# Altium integrated library Altium_Inductor.IntLib: 43 symbols (part 1 of 2)
Pins are listed as number, name and electrical type; pins without a type are passive.

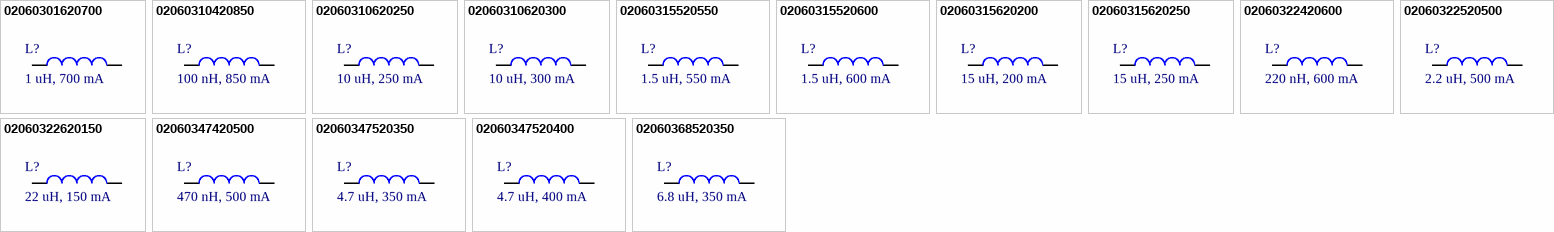
[diagram p0: symbols 02060301620700 to 02060368520350]

## 02060301620700
designator L?, comment 1 uH, 700 mA
Inductor SMD, size 0603, 1 uH, 700 mA; Manufacture Name: TDK; Manufacture SN: MLZ1608N1R0LTD25; Inductance: 1 uH; Tolerance: 20%; Maximum DC Current: 700 mA; Maximum DC Resistance: 110 mOhms; Saturation Current: 140 mA; ComponentLink2Description: Supplier 1 URL; ComponentLink2URL: https://www.mouser.vn/ProductDetail/TDK/MLZ1608N1R0LTD25?qs=u4%252BEJ9urDARZDe6QVFAkFg%3D%3D; Mounting Technology: SMT; Operating Temperature: -55 to +125degC; Packaging: Tape and Reel; Size: 0603; Supplier 1 Name: Mouser; Supplier 1 SN: 810-MLZ1608N1R0LTD25; Supplier 1 URL: https://www.mouser.vn/ProductDetail/TDK/MLZ1608N1R0LTD25?qs=u4%252BEJ9urDARZDe6QVFAkFg%3D%3D; Supplier 2 Name: Digi-Key; Supplier 2 SN: 445-17068-2-ND; Supplier 2 URL: https://www.digikey.com/en/products/detail/tdk-corporation/mlz1608n1r0ltd25/4743177; Supplier 3 Name: thegioiic; Supplier 3 SN: OEM; Supplier 3 URL: N/A; ComponentLink1Description: Datasheet; ComponentLink1URL: https://product.tdk.com/system/files/dam/doc/product/inductor/inductor/smd/catalog/inductor_automotive_decoupling_mlz1608_en.pdf?ref_disty=mouser; ComponentLink3Description: Supplier 2 URL; ComponentLink3URL: https://www.digikey.com/en/products/detail/tdk-corporation/mlz1608n1r0ltd25/4743177; ComponentLink4Description: Supplier 3 URL; Value: 1 uH, 700 mA
footprint 0603 (Chip Inductor, 2-Leads, Body 1.60x0.85mm, IPC Medium Density)
pins: 1, 2

## 02060310420850
designator L?, comment 100 nH, 850 mA
Inductor SMD, size 0603, 100 nH, 850 mA; Manufacture Name: TDK; Manufacture SN: MLZ1608DR10DTD25; Inductance: 100 nH; Tolerance: 20%; Maximum DC Current: 850 mA; Maximum DC Resistance: 140 mOhms; Saturation Current: 700 mA; ComponentLink2Description: Supplier 1 URL; ComponentLink2URL: https://www.mouser.vn/ProductDetail/TDK/MLZ1608DR10DTD25?qs=u4%252BEJ9urDARQOELDKhLR2A%3D%3D; Mounting Technology: SMT; Operating Temperature: -55 to +125degC; Packaging: Tape and Reel; Size: 0603; Supplier 1 Name: Mouser; Supplier 1 SN: 810-MLZ1608DR10DTD25; Supplier 1 URL: https://www.mouser.vn/ProductDetail/TDK/MLZ1608DR10DTD25?qs=u4%252BEJ9urDARQOELDKhLR2A%3D%3D; Supplier 2 Name: Digi-Key; Supplier 2 SN: 445-181772-2-ND; Supplier 2 URL: https://www.digikey.com/en/products/detail/tdk-corporation/MLZ1608DR10DTD25/4743170; Supplier 3 Name: thegioiic; Supplier 3 SN: OEM; Supplier 3 URL: N/A; ComponentLink1Description: Datasheet; ComponentLink1URL: https://product.tdk.com/system/files/dam/doc/product/inductor/inductor/smd/catalog/inductor_automotive_decoupling_mlz1608_en.pdf?ref_disty=mouser; ComponentLink3Description: Supplier 2 URL; ComponentLink3URL: https://www.digikey.com/en/products/detail/tdk-corporation/MLZ1608DR10DTD25/4743170; ComponentLink4Description: Supplier 3 URL; Value: 100 nH, 850 mA
footprint 0603 (Chip Inductor, 2-Leads, Body 1.60x0.85mm, IPC Medium Density)
pins: 1, 2

## 02060310620250
designator L?, comment 10 uH, 250 mA
Inductor SMD, size 0603, 10 uH, 250 mA; Manufacture Name: TDK; Manufacture SN: MLZ1608M100WTD25; Inductance: 10 uH; Tolerance: 20%; Maximum DC Current: 250 mA; Maximum DC Resistance: 1.05 Ohms; Saturation Current: 90 mA; ComponentLink2Description: Supplier 1 URL; ComponentLink2URL: https://www.mouser.vn/ProductDetail/TDK/MLZ1608M100WTD25?qs=u4%252BEJ9urDATpNhOvJ54DAQ%3D%3D; Mounting Technology: SMT; Operating Temperature: -55 to +125degC; Packaging: Tape and Reel; Size: 0603; Supplier 1 Name: Mouser; Supplier 1 SN: 810-MLZ1608M100WTD25; Supplier 1 URL: https://www.mouser.vn/ProductDetail/TDK/MLZ1608M100WTD25?qs=u4%252BEJ9urDATpNhOvJ54DAQ%3D%3D; Supplier 2 Name: Digi-Key; Supplier 2 SN: 445-175588-2-ND; Supplier 2 URL: https://www.digikey.com/en/products/detail/tdk-corporation/MLZ1608M100WTD25/4743176; Supplier 3 Name: thegioiic; Supplier 3 SN: OEM; Supplier 3 URL: N/A; ComponentLink1Description: Datasheet; ComponentLink1URL: https://product.tdk.com/system/files/dam/doc/product/inductor/inductor/smd/catalog/inductor_automotive_decoupling_mlz1608_en.pdf?ref_disty=mouser; ComponentLink3Description: Supplier 2 URL; ComponentLink3URL: https://www.digikey.com/en/products/detail/tdk-corporation/MLZ1608M100WTD25/4743176; ComponentLink4Description: Supplier 3 URL; Value: 10 uH, 250 mA
footprint 0603 (Chip Inductor, 2-Leads, Body 1.60x0.85mm, IPC Medium Density)
pins: 1, 2

## 02060310620300
designator L?, comment 10 uH, 300 mA
Inductor SMD, size 0603, 10 uH, 250 mA; Manufacture Name: TDK; Manufacture SN: MLZ1608N100LTD25; Inductance: 10 uH; Tolerance: 20%; Maximum DC Current: 300 mA; Maximum DC Resistance: 600 mOhms; Saturation Current: 60 mA; ComponentLink2Description: Supplier 1 URL; ComponentLink2URL: https://www.mouser.vn/ProductDetail/TDK/MLZ1608N100LTD25?qs=u4%252BEJ9urDAR9PN74yn68fw%3D%3D; Mounting Technology: SMT; Operating Temperature: -55 to +125degC; Packaging: Tape and Reel; Size: 0603; Supplier 1 Name: Mouser; Supplier 1 SN: 810-MLZ1608N100LTD25; Supplier 1 URL: https://www.mouser.vn/ProductDetail/TDK/MLZ1608N100LTD25?qs=u4%252BEJ9urDAR9PN74yn68fw%3D%3D; Supplier 2 Name: Digi-Key; Supplier 2 SN: 445-17067-2-ND; Supplier 2 URL: https://www.digikey.com/en/products/detail/tdk-corporation/MLZ1608N100LTD25/4743180; Supplier 3 Name: thegioiic; Supplier 3 SN: OEM; Supplier 3 URL: N/A; ComponentLink1Description: Datasheet; ComponentLink1URL: https://product.tdk.com/system/files/dam/doc/product/inductor/inductor/smd/catalog/inductor_automotive_decoupling_mlz1608_en.pdf?ref_disty=mouser; ComponentLink3Description: Supplier 2 URL; ComponentLink3URL: https://www.digikey.com/en/products/detail/tdk-corporation/MLZ1608N100LTD25/4743180; ComponentLink4Description: Supplier 3 URL; Value: 10 uH, 300 mA
footprint 0603 (Chip Inductor, 2-Leads, Body 1.60x0.85mm, IPC Medium Density)
pins: 1, 2

## 02060315520550
designator L?, comment 1.5 uH, 550 mA
Inductor SMD, size 0603, 1.5 uH, 550 mA; Manufacture Name: TDK; Manufacture SN: MLZ1608A1R5WTD25; Inductance: 1.5 uH; Tolerance: 20%; Maximum DC Current: 550 mA; Maximum DC Resistance: 210 mOhms; Saturation Current: 160 mA; ComponentLink2Description: Supplier 1 URL; ComponentLink2URL: https://www.mouser.vn/ProductDetail/TDK/MLZ1608A1R5WTD25?qs=%252B6g0mu59x7Lg7CF61%2F9A9Q%3D%3D; Mounting Technology: SMT; Operating Temperature: -55 to +125degC; Packaging: Tape and Reel; Size: 0603; Supplier 1 Name: Mouser; Supplier 1 SN: 810-MLZ1608A1R5WTD25; Supplier 1 URL: https://www.mouser.vn/ProductDetail/TDK/MLZ1608A1R5WTD25?qs=%252B6g0mu59x7Lg7CF61%2F9A9Q%3D%3D; Supplier 2 Name: Digi-Key; Supplier 2 SN: 445-MLZ1608A1R5WTD25TR-ND; Supplier 2 URL: https://www.digikey.com/en/products/detail/tdk-corporation/MLZ1608A1R5WTD25/10444786; Supplier 3 Name: thegioiic; Supplier 3 SN: OEM; Supplier 3 URL: N/A; ComponentLink1Description: Datasheet; ComponentLink1URL: https://product.tdk.com/system/files/dam/doc/product/inductor/inductor/smd/catalog/inductor_automotive_decoupling_mlz1608_en.pdf?ref_disty=mouser; ComponentLink3Description: Supplier 2 URL; ComponentLink3URL: https://www.digikey.com/en/products/detail/tdk-corporation/MLZ1608A1R5WTD25/10444786; ComponentLink4Description: Supplier 3 URL; Value: 1.5 uH, 550 mA
footprint 0603 (Chip Inductor, 2-Leads, Body 1.60x0.85mm, IPC Medium Density)
pins: 1, 2

## 02060315520600
designator L?, comment 1.5 uH, 600 mA
Inductor SMD, size 0603, 1.5 uH, 600 mA; Manufacture Name: TDK; Manufacture SN: MLZ1608N1R5LTD25; Inductance: 1.5 uH; Tolerance: 20%; Maximum DC Current: 600 mA; Maximum DC Resistance: 140 mOhms; Saturation Current: 130 mA; ComponentLink2Description: Supplier 1 URL; ComponentLink2URL: https://www.mouser.vn/ProductDetail/TDK/MLZ1608N1R5LTD25?qs=%252B6g0mu59x7I%2FeUgyQk2KQQ%3D%3D; Mounting Technology: SMT; Operating Temperature: -55 to +125degC; Packaging: Tape and Reel; Size: 0603; Supplier 1 Name: Mouser; Supplier 1 SN: 810-MLZ1608N1R5LTD25; Supplier 1 URL: https://www.mouser.vn/ProductDetail/TDK/MLZ1608N1R5LTD25?qs=%252B6g0mu59x7I%2FeUgyQk2KQQ%3D%3D; Supplier 2 Name: Digi-Key; Supplier 2 SN: 445-MLZ1608N1R5LTD25TR-ND; Supplier 2 URL: https://www.digikey.com/en/products/detail/tdk-corporation/MLZ1608N1R5LTD25/10444796; Supplier 3 Name: thegioiic; Supplier 3 SN: OEM; Supplier 3 URL: N/A; ComponentLink1Description: Datasheet; ComponentLink1URL: https://product.tdk.com/system/files/dam/doc/product/inductor/inductor/smd/catalog/inductor_automotive_decoupling_mlz1608_en.pdf?ref_disty=mouser; ComponentLink3Description: Supplier 2 URL; ComponentLink3URL: https://www.digikey.com/en/products/detail/tdk-corporation/MLZ1608N1R5LTD25/10444796; ComponentLink4Description: Supplier 3 URL; Value: 1.5 uH, 600 mA
footprint 0603 (Chip Inductor, 2-Leads, Body 1.60x0.85mm, IPC Medium Density)
pins: 1, 2

## 02060315620200
designator L?, comment 15 uH, 200 mA
Inductor SMD, size 0603, 15 uH, 200 mA; Manufacture Name: TDK; Manufacture SN: MLZ1608M150WTD25; Inductance: 15 uH; Tolerance: 20%; Maximum DC Current: 200 mA; Maximum DC Resistance: 1.5 Ohms; Saturation Current: 70 mA; ComponentLink2Description: Supplier 1 URL; ComponentLink2URL: https://www.mouser.vn/ProductDetail/TDK/MLZ1608M150WTD25?qs=%252B6g0mu59x7I%252BOawrISh7jg%3D%3D; Mounting Technology: SMT; Operating Temperature: -55 to +125degC; Packaging: Tape and Reel; Size: 0603; Supplier 1 Name: Mouser; Supplier 1 SN: 810-MLZ1608M150WTD25; Supplier 1 URL: https://www.mouser.vn/ProductDetail/TDK/MLZ1608M150WTD25?qs=%252B6g0mu59x7I%252BOawrISh7jg%3D%3D; Supplier 2 Name: Digi-Key; Supplier 2 SN: 445-MLZ1608M150WTD25TR-ND; Supplier 2 URL: https://www.digikey.com/en/products/detail/tdk-corporation/MLZ1608M150WTD25/10444797; Supplier 3 Name: thegioiic; Supplier 3 SN: OEM; Supplier 3 URL: N/A; ComponentLink1Description: Datasheet; ComponentLink1URL: https://product.tdk.com/system/files/dam/doc/product/inductor/inductor/smd/catalog/inductor_automotive_decoupling_mlz1608_en.pdf?ref_disty=mouser; ComponentLink3Description: Supplier 2 URL; ComponentLink3URL: https://www.digikey.com/en/products/detail/tdk-corporation/MLZ1608M150WTD25/10444797; ComponentLink4Description: Supplier 3 URL; Value: 15 uH, 200 mA
footprint 0603 (Chip Inductor, 2-Leads, Body 1.60x0.85mm, IPC Medium Density)
pins: 1, 2

## 02060315620250
designator L?, comment 15 uH, 250 mA
Inductor SMD, size 0603, 15 uH, 250 mA; Manufacture Name: TDK; Manufacture SN: MLZ1608N150LTD25; Inductance: 15 uH; Tolerance: 20%; Maximum DC Current: 250 mA; Maximum DC Resistance: 1.02 Ohms; Saturation Current: 55 mA; ComponentLink2Description: Supplier 1 URL; ComponentLink2URL: https://www.mouser.vn/ProductDetail/TDK/MLZ1608N150LTD25?qs=%252B6g0mu59x7JxcDPDnoSQZQ%3D%3D; Mounting Technology: SMT; Operating Temperature: -55 to +125degC; Packaging: Tape and Reel; Size: 0603; Supplier 1 Name: Mouser; Supplier 1 SN: 810-MLZ1608N150LTD25; Supplier 1 URL: https://www.mouser.vn/ProductDetail/TDK/MLZ1608N150LTD25?qs=%252B6g0mu59x7JxcDPDnoSQZQ%3D%3D; Supplier 2 Name: Digi-Key; Supplier 2 SN: 445-MLZ1608N150LTD25TR-ND; Supplier 2 URL: https://www.digikey.com/en/products/detail/tdk-corporation/MLZ1608N150LTD25/10444795; Supplier 3 Name: thegioiic; Supplier 3 SN: OEM; Supplier 3 URL: N/A; ComponentLink1Description: Datasheet; ComponentLink1URL: https://product.tdk.com/system/files/dam/doc/product/inductor/inductor/smd/catalog/inductor_automotive_decoupling_mlz1608_en.pdf?ref_disty=mouser; ComponentLink3Description: Supplier 2 URL; ComponentLink3URL: https://www.digikey.com/en/products/detail/tdk-corporation/MLZ1608N150LTD25/10444795; ComponentLink4Description: Supplier 3 URL; Value: 15 uH, 250 mA
footprint 0603 (Chip Inductor, 2-Leads, Body 1.60x0.85mm, IPC Medium Density)
pins: 1, 2

## 02060322420600
designator L?, comment 220 nH, 600 mA
Inductor SMD, size 0603, 220 nH, 600 mA; Manufacture Name: TDK; Manufacture SN: MLZ1608DR22DTD25; Inductance: 220 nH; Tolerance: 20%; Maximum DC Current: 600 mA; Maximum DC Resistance: 270 mOhms; Saturation Current: 550 mA; ComponentLink2Description: Supplier 1 URL; ComponentLink2URL: https://www.mouser.vn/ProductDetail/TDK/MLZ1608DR22DTD25?qs=u4%252BEJ9urDAQSgs4hTIdNHg%3D%3D; Mounting Technology: SMT; Operating Temperature: -55 to +125degC; Packaging: Tape and Reel; Size: 0603; Supplier 1 Name: Mouser; Supplier 1 SN: 810-MLZ1608DR22DTD25; Supplier 1 URL: https://www.mouser.vn/ProductDetail/TDK/MLZ1608DR22DTD25?qs=u4%252BEJ9urDAQSgs4hTIdNHg%3D%3D; Supplier 2 Name: Digi-Key; Supplier 2 SN: 445-181773-2-ND; Supplier 2 URL: https://www.digikey.com/en/products/detail/tdk-corporation/MLZ1608DR22DTD25/4743171; Supplier 3 Name: thegioiic; Supplier 3 SN: OEM; Supplier 3 URL: N/A; ComponentLink1Description: Datasheet; ComponentLink1URL: https://product.tdk.com/system/files/dam/doc/product/inductor/inductor/smd/catalog/inductor_automotive_decoupling_mlz1608_en.pdf?ref_disty=mouser; ComponentLink3Description: Supplier 2 URL; ComponentLink3URL: https://www.digikey.com/en/products/detail/tdk-corporation/MLZ1608DR22DTD25/4743171; ComponentLink4Description: Supplier 3 URL; Value: 220 nH, 600 mA
footprint 0603 (Chip Inductor, 2-Leads, Body 1.60x0.85mm, IPC Medium Density)
pins: 1, 2

## 02060322520500
designator L?, comment 2.2 uH, 500 mA
Inductor SMD, size 0603, 2.2 uH, 500 mA; Manufacture Name: TDK; Manufacture SN: MLZ1608A2R2WTD25; Inductance: 2.2 uH; Tolerance: 20%; Maximum DC Current: 500 mA; Maximum DC Resistance: 250 mOhms; Saturation Current: 130 mA; ComponentLink2Description: Supplier 1 URL; ComponentLink2URL: https://www.mouser.vn/ProductDetail/TDK/MLZ1608A2R2WTD25?qs=u4%252BEJ9urDATk7ZqxOPwIUA%3D%3D; Mounting Technology: SMT; Operating Temperature: -55 to +125degC; Packaging: Tape and Reel; Size: 0603; Supplier 1 Name: Mouser; Supplier 1 SN: 810-MLZ1608A2R2WTD25; Supplier 1 URL: https://www.mouser.vn/ProductDetail/TDK/MLZ1608A2R2WTD25?qs=u4%252BEJ9urDATk7ZqxOPwIUA%3D%3D; Supplier 2 Name: Digi-Key; Supplier 2 SN: 445-MLZ1608A2R2WTD25TR-ND; Supplier 2 URL: https://www.digikey.com/en/products/detail/tdk-corporation/MLZ1608A2R2WTD25/4743174; Supplier 3 Name: thegioiic; Supplier 3 SN: OEM; Supplier 3 URL: N/A; ComponentLink1Description: Datasheet; ComponentLink1URL: https://product.tdk.com/system/files/dam/doc/product/inductor/inductor/smd/catalog/inductor_automotive_decoupling_mlz1608_en.pdf?ref_disty=mouser; ComponentLink3Description: Supplier 2 URL; ComponentLink3URL: https://www.digikey.com/en/products/detail/tdk-corporation/MLZ1608A2R2WTD25/4743174; ComponentLink4Description: Supplier 3 URL; Value: 2.2 uH, 500 mA
footprint 0603 (Chip Inductor, 2-Leads, Body 1.60x0.85mm, IPC Medium Density)
pins: 1, 2

## 02060322620150
designator L?, comment 22 uH, 150 mA
Inductor SMD, size 0603, 2.2 uH, 500 mA; Manufacture Name: TDK; Manufacture SN: MLZ1608M220WTD25; Inductance: 22 uH; Tolerance: 20%; Maximum DC Current: 150 mA; Maximum DC Resistance: 2.4 Ohms; Saturation Current: 55 mA; ComponentLink2Description: Supplier 1 URL; ComponentLink2URL: https://www.mouser.vn/ProductDetail/TDK/MLZ1608M220WTD25?qs=YdQ7Kj7W0bxoaxZZHsF4zA%3D%3D; Mounting Technology: SMT; Operating Temperature: -55 to +125degC; Packaging: Tape and Reel; Size: 0603; Supplier 1 Name: Mouser; Supplier 1 SN: 810-MLZ1608M220WTD25; Supplier 1 URL: https://www.mouser.vn/ProductDetail/TDK/MLZ1608M220WTD25?qs=YdQ7Kj7W0bxoaxZZHsF4zA%3D%3D; Supplier 2 Name: Digi-Key; Supplier 2 SN: 445-175589-2-ND; Supplier 2 URL: https://www.digikey.com/en/products/detail/tdk-corporation/MLZ1608M220WTD25/5286368; Supplier 3 Name: thegioiic; Supplier 3 SN: OEM; Supplier 3 URL: N/A; ComponentLink1Description: Datasheet; ComponentLink1URL: https://product.tdk.com/system/files/dam/doc/product/inductor/inductor/smd/catalog/inductor_automotive_decoupling_mlz1608_en.pdf?ref_disty=mouser; ComponentLink3Description: Supplier 2 URL; ComponentLink3URL: https://www.digikey.com/en/products/detail/tdk-corporation/MLZ1608M220WTD25/5286368; ComponentLink4Description: Supplier 3 URL; Value: 22 uH, 150 mA
footprint 0603 (Chip Inductor, 2-Leads, Body 1.60x0.85mm, IPC Medium Density)
pins: 1, 2

## 02060347420500
designator L?, comment 470 nH, 500 mA
Inductor SMD, size 0603, 470 nH, 500 mA; Manufacture Name: TDK; Manufacture SN: MLZ1608DR47DTD25; Inductance: 470 nH; Tolerance: 20%; Maximum DC Current: 500 mA; Maximum DC Resistance: 420 mOhms; Saturation Current: 400 mA; ComponentLink2Description: Supplier 1 URL; ComponentLink2URL: https://www.mouser.vn/ProductDetail/TDK/MLZ1608DR47DTD25?qs=u4%252BEJ9urDASb15lCTTiHEg%3D%3D; Mounting Technology: SMT; Operating Temperature: -55 to +125degC; Packaging: Tape and Reel; Size: 0603; Supplier 1 Name: Mouser; Supplier 1 SN: 810-MLZ1608DR47DTD25; Supplier 1 URL: https://www.mouser.vn/ProductDetail/TDK/MLZ1608DR47DTD25?qs=u4%252BEJ9urDASb15lCTTiHEg%3D%3D; Supplier 2 Name: Digi-Key; Supplier 2 SN: 445-175372-2-ND; Supplier 2 URL: https://www.digikey.com/en/products/detail/tdk-corporation/MLZ1608DR47DTD25/4743172; Supplier 3 Name: thegioiic; Supplier 3 SN: OEM; Supplier 3 URL: N/A; ComponentLink1Description: Datasheet; ComponentLink1URL: https://product.tdk.com/system/files/dam/doc/product/inductor/inductor/smd/catalog/inductor_automotive_decoupling_mlz1608_en.pdf?ref_disty=mouser; ComponentLink3Description: Supplier 2 URL; ComponentLink3URL: https://www.digikey.com/en/products/detail/tdk-corporation/MLZ1608DR47DTD25/4743172; ComponentLink4Description: Supplier 3 URL; Value: 470 nH, 500 mA
footprint 0603 (Chip Inductor, 2-Leads, Body 1.60x0.85mm, IPC Medium Density)
pins: 1, 2

## 02060347520350
designator L?, comment 4.7 uH, 350 mA
Inductor SMD, size 0603, 4.7 uH, 350 mA; Manufacture Name: TDK; Manufacture SN: MLZ1608M4R7WTD25; Inductance: 4.7 uH; Tolerance: 20%; Maximum DC Current: 350 mA; Maximum DC Resistance: 500 mOhms; Saturation Current: 120 mA; ComponentLink2Description: Supplier 1 URL; ComponentLink2URL: https://www.mouser.vn/ProductDetail/TDK/MLZ1608M4R7WTD25?qs=u4%252BEJ9urDARoIG2pH84vrg%3D%3D; Mounting Technology: SMT; Operating Temperature: -55 to +125degC; Packaging: Tape and Reel; Size: 0603; Supplier 1 Name: Mouser; Supplier 1 SN: 810-MLZ1608M4R7WTD25; Supplier 1 URL: https://www.mouser.vn/ProductDetail/TDK/MLZ1608M4R7WTD25?qs=u4%252BEJ9urDARoIG2pH84vrg%3D%3D; Supplier 2 Name: Digi-Key; Supplier 2 SN: 445-181774-2-ND; Supplier 2 URL: https://www.digikey.com/en/products/detail/tdk-corporation/MLZ1608M4R7WTD25/4743175; Supplier 3 Name: thegioiic; Supplier 3 SN: OEM; Supplier 3 URL: N/A; ComponentLink1Description: Datasheet; ComponentLink1URL: https://product.tdk.com/system/files/dam/doc/product/inductor/inductor/smd/catalog/inductor_automotive_decoupling_mlz1608_en.pdf?ref_disty=mouser; ComponentLink3Description: Supplier 2 URL; ComponentLink3URL: https://www.digikey.com/en/products/detail/tdk-corporation/MLZ1608M4R7WTD25/4743175; ComponentLink4Description: Supplier 3 URL; Value: 4.7 uH, 350 mA
footprint 0603 (Chip Inductor, 2-Leads, Body 1.60x0.85mm, IPC Medium Density)
pins: 1, 2

## 02060347520400
designator L?, comment 4.7 uH, 400 mA
Inductor SMD, size 0603, 4.7 uH, 400 mA; Manufacture Name: TDK; Manufacture SN: MLZ1608N4R7LTD25; Inductance: 4.7 uH; Tolerance: 20%; Maximum DC Current: 400 mA; Maximum DC Resistance: 320 mOhms; Saturation Current: 80 mA; ComponentLink2Description: Supplier 1 URL; ComponentLink2URL: https://www.mouser.vn/ProductDetail/TDK/MLZ1608N4R7LTD25?qs=u4%252BEJ9urDATh1I%2FCoJo5pA%3D%3D; Mounting Technology: SMT; Operating Temperature: -55 to +125degC; Packaging: Tape and Reel; Size: 0603; Supplier 1 Name: Mouser; Supplier 1 SN: 810-MLZ1608N4R7LTD25; Supplier 1 URL: https://www.mouser.vn/ProductDetail/TDK/MLZ1608N4R7LTD25?qs=u4%252BEJ9urDATh1I%2FCoJo5pA%3D%3D; Supplier 2 Name: Digi-Key; Supplier 2 SN: 445-17071-2-ND; Supplier 2 URL: https://www.digikey.com/en/products/detail/tdk-corporation/MLZ1608N4R7LTD25/4743179; Supplier 3 Name: thegioiic; Supplier 3 SN: OEM; Supplier 3 URL: N/A; ComponentLink1Description: Datasheet; ComponentLink1URL: https://product.tdk.com/system/files/dam/doc/product/inductor/inductor/smd/catalog/inductor_automotive_decoupling_mlz1608_en.pdf?ref_disty=mouser; ComponentLink3Description: Supplier 2 URL; ComponentLink3URL: https://www.digikey.com/en/products/detail/tdk-corporation/MLZ1608N4R7LTD25/4743179; ComponentLink4Description: Supplier 3 URL; Value: 4.7 uH, 400 mA
footprint 0603 (Chip Inductor, 2-Leads, Body 1.60x0.85mm, IPC Medium Density)
pins: 1, 2

## 02060368520350
designator L?, comment 6.8 uH, 350 mA
Inductor SMD, size 0603, 6.8 uH, 350 mA; Manufacture Name: TDK; Manufacture SN: MLZ1608N6R8LTD25; Inductance: 6.8 uH; Tolerance: 20%; Maximum DC Current: 350 mA; Maximum DC Resistance: 500 mOhms; Saturation Current: 80 mA; ComponentLink2Description: Supplier 1 URL; ComponentLink2URL: https://www.mouser.vn/ProductDetail/TDK/MLZ1608N6R8LTD25?qs=%252B6g0mu59x7J9YLPGsJOURg%3D%3D; Mounting Technology: SMT; Operating Temperature: -55 to +125degC; Packaging: Tape and Reel; Size: 0603; Supplier 1 Name: Mouser; Supplier 1 SN: 810-MLZ1608N6R8LTD25; Supplier 1 URL: https://www.mouser.vn/ProductDetail/TDK/MLZ1608N6R8LTD25?qs=%252B6g0mu59x7J9YLPGsJOURg%3D%3D; Supplier 2 Name: Digi-Key; Supplier 2 SN: 445-MLZ1608N6R8LTD25TR-ND; Supplier 2 URL: https://www.digikey.com/en/products/detail/tdk-corporation/MLZ1608N6R8LTD25/10444790; Supplier 3 Name: thegioiic; Supplier 3 SN: OEM; Supplier 3 URL: N/A; ComponentLink1Description: Datasheet; ComponentLink1URL: https://product.tdk.com/system/files/dam/doc/product/inductor/inductor/smd/catalog/inductor_automotive_decoupling_mlz1608_en.pdf?ref_disty=mouser; ComponentLink3Description: Supplier 2 URL; ComponentLink3URL: https://www.digikey.com/en/products/detail/tdk-corporation/MLZ1608N6R8LTD25/10444790; ComponentLink4Description: Supplier 3 URL; Value: 6.8 uH, 350 mA
footprint 0603 (Chip Inductor, 2-Leads, Body 1.60x0.85mm, IPC Medium Density)
pins: 1, 2


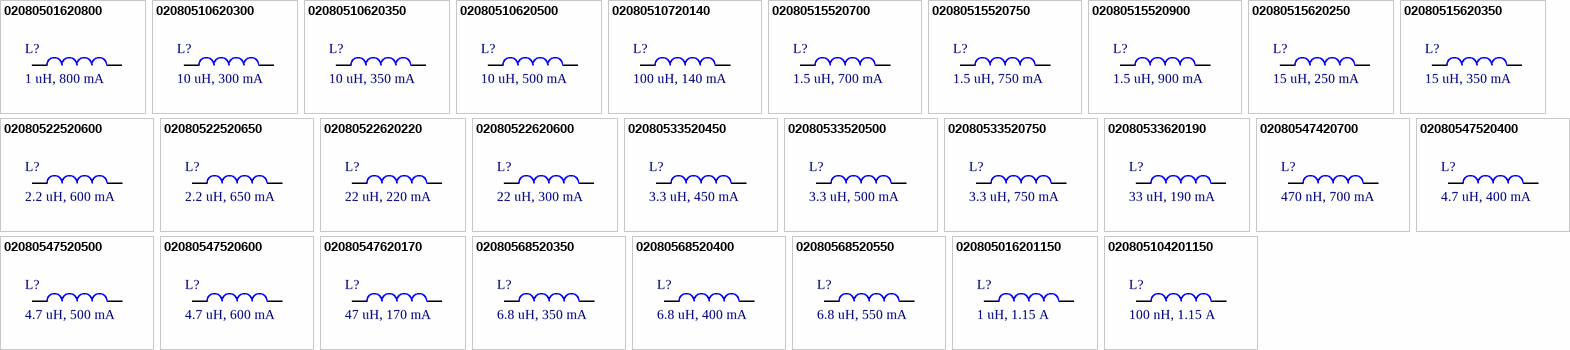
[diagram p1: symbols 02080501620800 to 020805104201150]

## 02080501620800
designator L?, comment 1 uH, 800 mA
Inductor SMD, size 0805, 1 uH, 800 mA; Manufacture Name: TDK; Manufacture SN: MLZ2012M1R0HTD25; Inductance: 1 uH; Tolerance: 20%; Maximum DC Current: 800 mA; Maximum DC Resistance: 100 mOhms; Saturation Current: 700 mA; ComponentLink2Description: Supplier 1 URL; ComponentLink2URL: https://www.mouser.vn/ProductDetail/TDK/MLZ2012M1R0HTD25?qs=u4%252BEJ9urDAQlAU4Z%2FIlhRQ%3D%3D; Mounting Technology: SMT; Operating Temperature: -55 to +125degC; Packaging: Tape and Reel; Size: 0805; Supplier 1 Name: Mouser; Supplier 1 SN: 810-MLZ2012M1R0HTD25; Supplier 1 URL: https://www.mouser.vn/ProductDetail/TDK/MLZ2012M1R0HTD25?qs=u4%252BEJ9urDAQlAU4Z%2FIlhRQ%3D%3D; Supplier 2 Name: Digi-Key; Supplier 2 SN: 445-17075-2-ND; Supplier 2 URL: https://www.digikey.com/en/products/detail/tdk-corporation/MLZ2012M1R0HTD25/4743204; Supplier 3 Name: thegioiic; Supplier 3 SN: OEM; Supplier 3 URL: N/A; ComponentLink1Description: Datasheet; ComponentLink1URL: https://product.tdk.com/system/files/dam/doc/product/inductor/inductor/smd/catalog/inductor_automotive_decoupling_mlz2012_en.pdf?ref_disty=mouser; ComponentLink3Description: Supplier 2 URL; ComponentLink3URL: https://www.digikey.com/en/products/detail/tdk-corporation/MLZ2012M1R0HTD25/4743204; ComponentLink4Description: Supplier 3 URL; Value: 1 uH, 800 mA
footprint 0805 (Chip Inductor, 2-Leads, Body 2.05x1.30mm, IPC Medium Density)
pins: 1, 2

## 02080510620300
designator L?, comment 10 uH, 300 mA
Inductor SMD, size 0805, 10 uH, 300 mA; Manufacture Name: TDK; Manufacture SN: MLZ2012M100HTD25; Inductance: 10 uH; Tolerance: 20%; Maximum DC Current: 300 mA; Maximum DC Resistance: 680 mOhms; Saturation Current: 200 mA; ComponentLink2Description: Supplier 1 URL; ComponentLink2URL: https://www.mouser.vn/ProductDetail/TDK/MLZ2012M100HTD25?qs=u4%252BEJ9urDAQYkd2XyBHI6Q%3D%3D; Mounting Technology: SMT; Operating Temperature: -55 to +125degC; Packaging: Tape and Reel; Size: 0805; Supplier 1 Name: Mouser; Supplier 1 SN: 810-MLZ2012M100HTD25; Supplier 1 URL: https://www.mouser.vn/ProductDetail/TDK/MLZ2012M100HTD25?qs=u4%252BEJ9urDAQYkd2XyBHI6Q%3D%3D; Supplier 2 Name: Digi-Key; Supplier 2 SN: 445-17072-2-ND; Supplier 2 URL: https://www.digikey.com/en/products/detail/tdk-corporation/MLZ2012M100HTD25/4743207; Supplier 3 Name: thegioiic; Supplier 3 SN: OEM; Supplier 3 URL: N/A; ComponentLink1Description: Datasheet; ComponentLink1URL: https://product.tdk.com/system/files/dam/doc/product/inductor/inductor/smd/catalog/inductor_automotive_decoupling_mlz2012_en.pdf?ref_disty=mouser; ComponentLink3Description: Supplier 2 URL; ComponentLink3URL: https://www.digikey.com/en/products/detail/tdk-corporation/MLZ2012M100HTD25/4743207; ComponentLink4Description: Supplier 3 URL; Value: 10 uH, 300 mA
footprint 0805 (Chip Inductor, 2-Leads, Body 2.05x1.30mm, IPC Medium Density)
pins: 1, 2

## 02080510620350
designator L?, comment 10 uH, 350 mA
Inductor SMD, size 0805, 10 uH, 350 mA; Manufacture Name: TDK; Manufacture SN: MLZ2012M100WTD25; Inductance: 10 uH; Tolerance: 20%; Maximum DC Current: 350 mA; Maximum DC Resistance: 470 mOhms; Saturation Current: 150 mA; ComponentLink2Description: Supplier 1 URL; ComponentLink2URL: https://www.mouser.vn/ProductDetail/TDK/MLZ2012M100WTD25?qs=u4%252BEJ9urDAR9TAtQyg%252Bgig%3D%3D; Mounting Technology: SMT; Operating Temperature: -55 to +125degC; Packaging: Tape and Reel; Size: 0805; Supplier 1 Name: Mouser; Supplier 1 SN: 810-MLZ2012M100WTD25; Supplier 1 URL: https://www.mouser.vn/ProductDetail/TDK/MLZ2012M100WTD25?qs=u4%252BEJ9urDAR9TAtQyg%252Bgig%3D%3D; Supplier 2 Name: Digi-Key; Supplier 2 SN: 445-17073-2-ND; Supplier 2 URL: https://www.digikey.com/en/products/detail/tdk-corporation/MLZ2012M100WTD25/4743190; Supplier 3 Name: thegioiic; Supplier 3 SN: OEM; Supplier 3 URL: N/A; ComponentLink1Description: Datasheet; ComponentLink1URL: https://product.tdk.com/system/files/dam/doc/product/inductor/inductor/smd/catalog/inductor_automotive_decoupling_mlz2012_en.pdf?ref_disty=mouser; ComponentLink3Description: Supplier 2 URL; ComponentLink3URL: https://www.digikey.com/en/products/detail/tdk-corporation/MLZ2012M100WTD25/4743190; ComponentLink4Description: Supplier 3 URL; Value: 10 uH, 350 mA
footprint 0805 (Chip Inductor, 2-Leads, Body 2.05x1.30mm, IPC Medium Density)
pins: 1, 2

## 02080510620500
designator L?, comment 10 uH, 500 mA
Inductor SMD, size 0805, 10 uH, 500 mA; Manufacture Name: TDK; Manufacture SN: MLZ2012N100LTD25; Inductance: 10 uH; Tolerance: 20%; Maximum DC Current: 500 mA; Maximum DC Resistance: 300 mOhms; Saturation Current: 110 mA; ComponentLink2Description: Supplier 1 URL; ComponentLink2URL: https://www.mouser.vn/ProductDetail/TDK/MLZ2012N100LTD25?qs=u4%252BEJ9urDARneg1gtcr%252BDw%3D%3D; Mounting Technology: SMT; Operating Temperature: -55 to +125degC; Packaging: Tape and Reel; Size: 0805; Supplier 1 Name: Mouser; Supplier 1 SN: 810-MLZ2012N100LTD25; Supplier 1 URL: https://www.mouser.vn/ProductDetail/TDK/MLZ2012N100LTD25?qs=u4%252BEJ9urDARneg1gtcr%252BDw%3D%3D; Supplier 2 Name: Digi-Key; Supplier 2 SN: 445-16376-2-ND; Supplier 2 URL: https://www.digikey.com/en/products/detail/tdk-corporation/MLZ2012N100LTD25/4743201; Supplier 3 Name: thegioiic; Supplier 3 SN: OEM; Supplier 3 URL: N/A; ComponentLink1Description: Datasheet; ComponentLink1URL: https://product.tdk.com/system/files/dam/doc/product/inductor/inductor/smd/catalog/inductor_automotive_decoupling_mlz2012_en.pdf?ref_disty=mouser; ComponentLink3Description: Supplier 2 URL; ComponentLink3URL: https://www.digikey.com/en/products/detail/tdk-corporation/MLZ2012N100LTD25/4743201; ComponentLink4Description: Supplier 3 URL; Value: 10 uH, 500 mA
footprint 0805 (Chip Inductor, 2-Leads, Body 2.05x1.30mm, IPC Medium Density)
pins: 1, 2

## 02080510720140
designator L?, comment 100 uH, 140 mA
Inductor SMD, size 0805, 100 uH, 140 mA; Manufacture Name: TDK; Manufacture SN: MLZ2012N101LTD25; Inductance: 100 uH; Tolerance: 20%; Maximum DC Current: 140 mA; Maximum DC Resistance: 3.5 Ohms; Saturation Current: 30 mA; ComponentLink2Description: Supplier 1 URL; ComponentLink2URL: https://www.mouser.vn/ProductDetail/TDK/MLZ2012N101LTD25?qs=YdQ7Kj7W0bw9XroInDCNIA%3D%3D; Mounting Technology: SMT; Operating Temperature: -55 to +125degC; Packaging: Tape and Reel; Size: 0805; Supplier 1 Name: Mouser; Supplier 1 SN: 810-MLZ2012N101LTD25; Supplier 1 URL: https://www.mouser.vn/ProductDetail/TDK/MLZ2012N101LTD25?qs=YdQ7Kj7W0bw9XroInDCNIA%3D%3D; Supplier 2 Name: Digi-Key; Supplier 2 SN: 445-181376-2-ND; Supplier 2 URL: https://www.digikey.com/en/products/detail/tdk-corporation/MLZ2012N101LTD25/5286375; Supplier 3 Name: thegioiic; Supplier 3 SN: OEM; Supplier 3 URL: N/A; ComponentLink1Description: Datasheet; ComponentLink1URL: https://product.tdk.com/system/files/dam/doc/product/inductor/inductor/smd/catalog/inductor_automotive_decoupling_mlz2012_en.pdf?ref_disty=mouser; ComponentLink3Description: Supplier 2 URL; ComponentLink3URL: https://www.digikey.com/en/products/detail/tdk-corporation/MLZ2012N101LTD25/5286375; ComponentLink4Description: Supplier 3 URL; Value: 100 uH, 140 mA
footprint 0805 (Chip Inductor, 2-Leads, Body 2.05x1.30mm, IPC Medium Density)
pins: 1, 2

## 02080515520700
designator L?, comment 1.5 uH, 700 mA
Inductor SMD, size 0805, 1.5 uH, 700 mA; Manufacture Name: TDK; Manufacture SN: MLZ2012M1R5HTD25; Inductance: 1.5 uH; Tolerance: 20%; Maximum DC Current: 700 mA; Maximum DC Resistance: 140 mOhms; Saturation Current: 550 mA; ComponentLink2Description: Supplier 1 URL; ComponentLink2URL: https://www.mouser.vn/ProductDetail/TDK/MLZ2012M1R5HTD25?qs=YdQ7Kj7W0bxvRKaUr8n3wg%3D%3D; Mounting Technology: SMT; Operating Temperature: -55 to +125degC; Packaging: Tape and Reel; Size: 0805; Supplier 1 Name: Mouser; Supplier 1 SN: 810-MLZ2012M1R5HTD25; Supplier 1 URL: https://www.mouser.vn/ProductDetail/TDK/MLZ2012M1R5HTD25?qs=YdQ7Kj7W0bxvRKaUr8n3wg%3D%3D; Supplier 2 Name: Digi-Key; Supplier 2 SN: 445-181776-2-ND; Supplier 2 URL: https://www.digikey.com/en/products/detail/tdk-corporation/MLZ2012M1R5HTD25/5286370; Supplier 3 Name: thegioiic; Supplier 3 SN: OEM; Supplier 3 URL: N/A; ComponentLink1Description: Datasheet; ComponentLink1URL: https://product.tdk.com/system/files/dam/doc/product/inductor/inductor/smd/catalog/inductor_automotive_decoupling_mlz2012_en.pdf?ref_disty=mouser; ComponentLink3Description: Supplier 2 URL; ComponentLink3URL: https://www.digikey.com/en/products/detail/tdk-corporation/MLZ2012M1R5HTD25/5286370; ComponentLink4Description: Supplier 3 URL; Value: 1.5 uH, 700 mA
footprint 0805 (Chip Inductor, 2-Leads, Body 2.05x1.30mm, IPC Medium Density)
pins: 1, 2

## 02080515520750
designator L?, comment 1.5 uH, 750 mA
Inductor SMD, size 0805, 1.5 uH, 750 mA; Manufacture Name: TDK; Manufacture SN: MLZ2012A1R5WTD25; Inductance: 1.5 uH; Tolerance: 20%; Maximum DC Current: 750 mA; Maximum DC Resistance: 130 mOhms; Saturation Current: 250 mA; ComponentLink2Description: Supplier 1 URL; ComponentLink2URL: https://www.mouser.vn/ProductDetail/TDK/MLZ2012A1R5WTD25?qs=u4%252BEJ9urDARizsVIGgQ1NQ%3D%3D; Mounting Technology: SMT; Operating Temperature: -55 to +125degC; Packaging: Tape and Reel; Size: 0805; Supplier 1 Name: Mouser; Supplier 1 SN: 810-MLZ2012A1R5WTD25; Supplier 1 URL: https://www.mouser.vn/ProductDetail/TDK/MLZ2012A1R5WTD25?qs=u4%252BEJ9urDARizsVIGgQ1NQ%3D%3D; Supplier 2 Name: Digi-Key; Supplier 2 SN: 445-16373-2-ND; Supplier 2 URL: https://www.digikey.com/en/products/detail/tdk-corporation/MLZ2012A1R5WTD25/4743185; Supplier 3 Name: thegioiic; Supplier 3 SN: OEM; Supplier 3 URL: N/A; ComponentLink1Description: Datasheet; ComponentLink1URL: https://product.tdk.com/system/files/dam/doc/product/inductor/inductor/smd/catalog/inductor_automotive_decoupling_mlz2012_en.pdf?ref_disty=mouser; ComponentLink3Description: Supplier 2 URL; ComponentLink3URL: https://www.digikey.com/en/products/detail/tdk-corporation/MLZ2012A1R5WTD25/4743185; ComponentLink4Description: Supplier 3 URL; Value: 1.5 uH, 750 mA
footprint 0805 (Chip Inductor, 2-Leads, Body 2.05x1.30mm, IPC Medium Density)
pins: 1, 2

## 02080515520900
designator L?, comment 1.5 uH, 900 mA
Inductor SMD, size 0805, 1.5 uH, 900 mA; Manufacture Name: TDK; Manufacture SN: MLZ2012N1R5LTD25; Inductance: 1.5 uH; Tolerance: 20%; Maximum DC Current: 900 mA; Maximum DC Resistance: 100 mOhms; Saturation Current: 190 mA; ComponentLink2Description: Supplier 1 URL; ComponentLink2URL: https://www.mouser.vn/ProductDetail/TDK/MLZ2012N1R5LTD25?qs=u4%252BEJ9urDATCFulmG8b9Pw%3D%3D; Mounting Technology: SMT; Operating Temperature: -55 to +125degC; Packaging: Tape and Reel; Size: 0805; Supplier 1 Name: Mouser; Supplier 1 SN: 810-MLZ2012N1R5LTD25; Supplier 1 URL: https://www.mouser.vn/ProductDetail/TDK/MLZ2012N1R5LTD25?qs=u4%252BEJ9urDATCFulmG8b9Pw%3D%3D; Supplier 2 Name: Digi-Key; Supplier 2 SN: 445-16379-2-ND; Supplier 2 URL: https://www.digikey.com/en/products/detail/tdk-corporation/MLZ2012N1R5LTD25/4743196; Supplier 3 Name: thegioiic; Supplier 3 SN: OEM; Supplier 3 URL: N/A; ComponentLink1Description: Datasheet; ComponentLink1URL: https://product.tdk.com/system/files/dam/doc/product/inductor/inductor/smd/catalog/inductor_automotive_decoupling_mlz2012_en.pdf?ref_disty=mouser; ComponentLink3Description: Supplier 2 URL; ComponentLink3URL: https://www.digikey.com/en/products/detail/tdk-corporation/MLZ2012N1R5LTD25/4743196; ComponentLink4Description: Supplier 3 URL; Value: 1.5 uH, 900 mA
footprint 0805 (Chip Inductor, 2-Leads, Body 2.05x1.30mm, IPC Medium Density)
pins: 1, 2

## 02080515620250
designator L?, comment 15 uH, 250 mA
Inductor SMD, size 0805, 15 uH, 250 mA; Manufacture Name: TDK; Manufacture SN: MLZ2012M150WTD25; Inductance: 15 uH; Tolerance: 20%; Maximum DC Current: 250 mA; Maximum DC Resistance: 950 mOhms; Saturation Current: 120 mA; ComponentLink2Description: Supplier 1 URL; ComponentLink2URL: https://www.mouser.vn/ProductDetail/TDK/MLZ2012M150WTD25?qs=u4%252BEJ9urDASd%2F4tcpzyeCQ%3D%3D; Mounting Technology: SMT; Operating Temperature: -55 to +125degC; Packaging: Tape and Reel; Size: 0805; Supplier 1 Name: Mouser; Supplier 1 SN: 810-MLZ2012M150WTD25; Supplier 1 URL: https://www.mouser.vn/ProductDetail/TDK/MLZ2012M150WTD25?qs=u4%252BEJ9urDASd%2F4tcpzyeCQ%3D%3D; Supplier 2 Name: Digi-Key; Supplier 2 SN: 445-17074-2-ND; Supplier 2 URL: https://www.digikey.com/en/products/detail/tdk-corporation/MLZ2012M150WTD25/4743191; Supplier 3 Name: thegioiic; Supplier 3 SN: OEM; Supplier 3 URL: N/A; ComponentLink1Description: Datasheet; ComponentLink1URL: https://product.tdk.com/system/files/dam/doc/product/inductor/inductor/smd/catalog/inductor_automotive_decoupling_mlz2012_en.pdf?ref_disty=mouser; ComponentLink3Description: Supplier 2 URL; ComponentLink3URL: https://www.digikey.com/en/products/detail/tdk-corporation/MLZ2012M150WTD25/4743191; ComponentLink4Description: Supplier 3 URL; Value: 15 uH, 250 mA
footprint 0805 (Chip Inductor, 2-Leads, Body 2.05x1.30mm, IPC Medium Density)
pins: 1, 2

## 02080515620350
designator L?, comment 15 uH, 350 mA
Inductor SMD, size 0805, 15 uH, 350 mA; Manufacture Name: TDK; Manufacture SN: MLZ2012N150LTD25; Inductance: 15 uH; Tolerance: 20%; Maximum DC Current: 350 mA; Maximum DC Resistance: 470 mOhms; Saturation Current: 90 mA; ComponentLink2Description: Supplier 1 URL; ComponentLink2URL: https://www.mouser.vn/ProductDetail/TDK/MLZ2012N150LTD25?qs=u4%252BEJ9urDAQgWowZxSy8Gw%3D%3D; Mounting Technology: SMT; Operating Temperature: -55 to +125degC; Packaging: Tape and Reel; Size: 0805; Supplier 1 Name: Mouser; Supplier 1 SN: 810-MLZ2012N150LTD25; Supplier 1 URL: https://www.mouser.vn/ProductDetail/TDK/MLZ2012N150LTD25?qs=u4%252BEJ9urDAQgWowZxSy8Gw%3D%3D; Supplier 2 Name: Digi-Key; Supplier 2 SN: 445-16377-2-ND; Supplier 2 URL: https://www.digikey.com/en/products/detail/tdk-corporation/MLZ2012N150LTD25/4743202; Supplier 3 Name: thegioiic; Supplier 3 SN: OEM; Supplier 3 URL: N/A; ComponentLink1Description: Datasheet; ComponentLink1URL: https://product.tdk.com/system/files/dam/doc/product/inductor/inductor/smd/catalog/inductor_automotive_decoupling_mlz2012_en.pdf?ref_disty=mouser; ComponentLink3Description: Supplier 2 URL; ComponentLink3URL: https://www.digikey.com/en/products/detail/tdk-corporation/MLZ2012N150LTD25/4743202; ComponentLink4Description: Supplier 3 URL; Value: 15 uH, 350 mA
footprint 0805 (Chip Inductor, 2-Leads, Body 2.05x1.30mm, IPC Medium Density)
pins: 1, 2

## 02080522520600
designator L?, comment 2.2 uH, 600 mA
Inductor SMD, size 0805, 2.2 uH, 600 mA; Manufacture Name: TDK; Manufacture SN: MLZ2012M2R2HTD25; Inductance: 2.2 uH; Tolerance: 20%; Maximum DC Current: 600 mA; Maximum DC Resistance: 160 mOhms; Saturation Current: 400 mA; ComponentLink2Description: Supplier 1 URL; ComponentLink2URL: https://www.mouser.vn/ProductDetail/TDK/MLZ2012M2R2HTD25?qs=u4%252BEJ9urDASJi%2FmjJyuGKw%3D%3D; Mounting Technology: SMT; Operating Temperature: -55 to +125degC; Packaging: Tape and Reel; Size: 0805; Supplier 1 Name: Mouser; Supplier 1 SN: 810-MLZ2012M2R2HTD25; Supplier 1 URL: https://www.mouser.vn/ProductDetail/TDK/MLZ2012M2R2HTD25?qs=u4%252BEJ9urDASJi%2FmjJyuGKw%3D%3D; Supplier 2 Name: Digi-Key; Supplier 2 SN: 445-17077-2-ND; Supplier 2 URL: https://www.digikey.com/en/products/detail/tdk-corporation/MLZ2012M2R2HTD25/4743205; Supplier 3 Name: thegioiic; Supplier 3 SN: OEM; Supplier 3 URL: N/A; ComponentLink1Description: Datasheet; ComponentLink1URL: https://product.tdk.com/system/files/dam/doc/product/inductor/inductor/smd/catalog/inductor_automotive_decoupling_mlz2012_en.pdf?ref_disty=mouser; ComponentLink3Description: Supplier 2 URL; ComponentLink3URL: https://www.digikey.com/en/products/detail/tdk-corporation/MLZ2012M2R2HTD25/4743205; ComponentLink4Description: Supplier 3 URL; Value: 2.2 uH, 600 mA
footprint 0805 (Chip Inductor, 2-Leads, Body 2.05x1.30mm, IPC Medium Density)
pins: 1, 2

## 02080522520650
designator L?, comment 2.2 uH, 650 mA
Inductor SMD, size 0805, 2.2 uH, 650 mA; Manufacture Name: TDK; Manufacture SN: MLZ2012A2R2WTD25; Inductance: 2.2 uH; Tolerance: 20%; Maximum DC Current: 650 mA; Maximum DC Resistance: 150 mOhms; Saturation Current: 210 mA; ComponentLink2Description: Supplier 1 URL; ComponentLink2URL: https://www.mouser.vn/ProductDetail/TDK/MLZ2012A2R2WTD25?qs=u4%252BEJ9urDARnPbWWJWNYng%3D%3D; Mounting Technology: SMT; Operating Temperature: -55 to +125degC; Packaging: Tape and Reel; Size: 0805; Supplier 1 Name: Mouser; Supplier 1 SN: 810-MLZ2012A2R2WTD25; Supplier 1 URL: https://www.mouser.vn/ProductDetail/TDK/MLZ2012A2R2WTD25?qs=u4%252BEJ9urDARnPbWWJWNYng%3D%3D; Supplier 2 Name: Digi-Key; Supplier 2 SN: 445-16374-2-ND; Supplier 2 URL: https://www.digikey.com/en/products/detail/tdk-corporation/MLZ2012A2R2WTD25/4743186; Supplier 3 Name: thegioiic; Supplier 3 SN: OEM; Supplier 3 URL: N/A; ComponentLink1Description: Datasheet; ComponentLink1URL: https://product.tdk.com/system/files/dam/doc/product/inductor/inductor/smd/catalog/inductor_automotive_decoupling_mlz2012_en.pdf?ref_disty=mouser; ComponentLink3Description: Supplier 2 URL; ComponentLink3URL: https://www.digikey.com/en/products/detail/tdk-corporation/MLZ2012A2R2WTD25/4743186; ComponentLink4Description: Supplier 3 URL; Value: 2.2 uH, 650 mA
footprint 0805 (Chip Inductor, 2-Leads, Body 2.05x1.30mm, IPC Medium Density)
pins: 1, 2

## 02080522620220
designator L?, comment 22 uH, 220 mA
Inductor SMD, size 0805, 22 uH, 220 mA; Manufacture Name: TDK; Manufacture SN: MLZ2012M220WTD25; Inductance: 22 uH; Tolerance: 20%; Maximum DC Current: 220 mA; Maximum DC Resistance: 2 Ohms; Saturation Current: 60 mA; ComponentLink2Description: Supplier 1 URL; ComponentLink2URL: https://www.mouser.vn/ProductDetail/TDK/MLZ2012M220WTD25?qs=u4%252BEJ9urDATL44Q%252B98CyaQ%3D%3D; Mounting Technology: SMT; Operating Temperature: -55 to +125degC; Packaging: Tape and Reel; Size: 0805; Supplier 1 Name: Mouser; Supplier 1 SN: 810-MLZ2012M220WTD25; Supplier 1 URL: https://www.mouser.vn/ProductDetail/TDK/MLZ2012M220WTD25?qs=u4%252BEJ9urDATL44Q%252B98CyaQ%3D%3D; Supplier 2 Name: Digi-Key; Supplier 2 SN: 445-17076-2-ND; Supplier 2 URL: https://www.digikey.com/en/products/detail/tdk-corporation/MLZ2012M220WTD25/4743192; Supplier 3 Name: thegioiic; Supplier 3 SN: OEM; Supplier 3 URL: N/A; ComponentLink1Description: Datasheet; ComponentLink1URL: https://product.tdk.com/system/files/dam/doc/product/inductor/inductor/smd/catalog/inductor_automotive_decoupling_mlz2012_en.pdf?ref_disty=mouser; ComponentLink3Description: Supplier 2 URL; ComponentLink3URL: https://www.digikey.com/en/products/detail/tdk-corporation/MLZ2012M220WTD25/4743192; ComponentLink4Description: Supplier 3 URL; Value: 22 uH, 220 mA
footprint 0805 (Chip Inductor, 2-Leads, Body 2.05x1.30mm, IPC Medium Density)
pins: 1, 2

## 02080522620600
designator L?, comment 22 uH, 300 mA
Inductor SMD, size 0805, 22 uH, 300 mA; Manufacture Name: TDK; Manufacture SN: MLZ2012N220LTD25; Inductance: 22 uH; Tolerance: 20%; Maximum DC Current: 300 mA; Maximum DC Resistance: 670 mOhms; Saturation Current: 70 mA; ComponentLink2Description: Supplier 1 URL; ComponentLink2URL: https://www.mouser.vn/ProductDetail/TDK/MLZ2012N220LTD25?qs=u4%252BEJ9urDATPmIaiZNWpsg%3D%3D; Mounting Technology: SMT; Operating Temperature: -55 to +125degC; Packaging: Tape and Reel; Size: 0805; Supplier 1 Name: Mouser; Supplier 1 SN: 810-MLZ2012N220LTD25; Supplier 1 URL: https://www.mouser.vn/ProductDetail/TDK/MLZ2012N220LTD25?qs=u4%252BEJ9urDATPmIaiZNWpsg%3D%3D; Supplier 2 Name: Digi-Key; Supplier 2 SN: 445-16380-2-ND; Supplier 2 URL: https://www.digikey.com/en/products/detail/tdk-corporation/MLZ2012N220LTD25/4743203; Supplier 3 Name: thegioiic; Supplier 3 SN: OEM; Supplier 3 URL: N/A; ComponentLink1Description: Datasheet; ComponentLink1URL: https://product.tdk.com/system/files/dam/doc/product/inductor/inductor/smd/catalog/inductor_automotive_decoupling_mlz2012_en.pdf?ref_disty=mouser; ComponentLink3Description: Supplier 2 URL; ComponentLink3URL: https://www.digikey.com/en/products/detail/tdk-corporation/MLZ2012N220LTD25/4743203; ComponentLink4Description: Supplier 3 URL; Value: 22 uH, 300 mA
footprint 0805 (Chip Inductor, 2-Leads, Body 2.05x1.30mm, IPC Medium Density)
pins: 1, 2

## 02080533520450
designator L?, comment 3.3 uH, 450 mA
Inductor SMD, size 0805, 3.3 uH, 450 mA; Manufacture Name: TDK; Manufacture SN: MLZ2012A3R3WTD25; Inductance: 3.3 uH; Tolerance: 20%; Maximum DC Current: 450 mA; Maximum DC Resistance: 340 mOhms; Saturation Current: 200 mA; ComponentLink2Description: Supplier 1 URL; ComponentLink2URL: https://www.mouser.vn/ProductDetail/TDK/MLZ2012A3R3WTD25?qs=u4%252BEJ9urDATabexDXyUWsg%3D%3D; Mounting Technology: SMT; Operating Temperature: -55 to +125degC; Packaging: Tape and Reel; Size: 0805; Supplier 1 Name: Mouser; Supplier 1 SN: 810-MLZ2012A3R3WTD25; Supplier 1 URL: https://www.mouser.vn/ProductDetail/TDK/MLZ2012A3R3WTD25?qs=u4%252BEJ9urDATabexDXyUWsg%3D%3D; Supplier 2 Name: Digi-Key; Supplier 2 SN: 445-16375-2-ND; Supplier 2 URL: https://www.digikey.com/en/products/detail/tdk-corporation/MLZ2012A3R3WTD25/4743187; Supplier 3 Name: thegioiic; Supplier 3 SN: OEM; Supplier 3 URL: N/A; ComponentLink1Description: Datasheet; ComponentLink1URL: https://product.tdk.com/system/files/dam/doc/product/inductor/inductor/smd/catalog/inductor_automotive_decoupling_mlz2012_en.pdf?ref_disty=mouser; ComponentLink3Description: Supplier 2 URL; ComponentLink3URL: https://www.digikey.com/en/products/detail/tdk-corporation/MLZ2012A3R3WTD25/4743187; ComponentLink4Description: Supplier 3 URL; Value: 3.3 uH, 450 mA
footprint 0805 (Chip Inductor, 2-Leads, Body 2.05x1.30mm, IPC Medium Density)
pins: 1, 2

## 02080533520500
designator L?, comment 3.3 uH, 500 mA
Inductor SMD, size 0805, 3.3 uH, 500 mA; Manufacture Name: TDK; Manufacture SN: MLZ2012M3R3ATD69; Inductance: 3.3 uH; Tolerance: 20%; Maximum DC Current: 500 mA; Maximum DC Resistance: 200 mOhms; Saturation Current: 350 mA; ComponentLink2Description: Supplier 1 URL; ComponentLink2URL: https://www.mouser.vn/ProductDetail/TDK/MLZ2012M3R3ATD69?qs=qSfuJ%252Bfl%2Fd5Das0KiyPekA%3D%3D; Mounting Technology: SMT; Operating Temperature: -55 to +125degC; Packaging: Tape and Reel; Size: 0805; Supplier 1 Name: Mouser; Supplier 1 SN: 810-MLZ2012M3R3ATD69; Supplier 1 URL: https://www.mouser.vn/ProductDetail/TDK/MLZ2012M3R3ATD69?qs=qSfuJ%252Bfl%2Fd5Das0KiyPekA%3D%3D; Supplier 2 Name: Digi-Key; Supplier 2 SN: 445-180843-2-ND; Supplier 2 URL: https://www.digikey.com/en/products/detail/tdk-corporation/MLZ2012M3R3ATD69/9605952; Supplier 3 Name: thegioiic; Supplier 3 SN: OEM; Supplier 3 URL: N/A; ComponentLink1Description: Datasheet; ComponentLink1URL: https://product.tdk.com/system/files/dam/doc/product/inductor/inductor/smd/catalog/inductor_automotive_decoupling_mlz2012-a_en.pdf?ref_disty=mouser; ComponentLink3Description: Supplier 2 URL; ComponentLink3URL: https://www.digikey.com/en/products/detail/tdk-corporation/MLZ2012M3R3ATD69/9605952; ComponentLink4Description: Supplier 3 URL; Value: 3.3 uH, 500 mA
footprint 0805 (Chip Inductor, 2-Leads, Body 2.05x1.30mm, IPC Medium Density)
pins: 1, 2

## 02080533520750
designator L?, comment 3.3 uH, 750 mA
Inductor SMD, size 0805, 3.3 uH, 750 mA; Manufacture Name: TDK; Manufacture SN: MLZ2012N3R3LTD25; Inductance: 3.3 uH; Tolerance: 20%; Maximum DC Current: 750 mA; Maximum DC Resistance: 150 mOhms; Saturation Current: 130 mA; ComponentLink2Description: Supplier 1 URL; ComponentLink2URL: https://www.mouser.vn/ProductDetail/TDK/MLZ2012N3R3LTD25?qs=u4%252BEJ9urDAQGoahxVVMJDQ%3D%3D; Mounting Technology: SMT; Operating Temperature: -55 to +125degC; Packaging: Tape and Reel; Size: 0805; Supplier 1 Name: Mouser; Supplier 1 SN: 810-MLZ2012N3R3LTD25; Supplier 1 URL: https://www.mouser.vn/ProductDetail/TDK/MLZ2012N3R3LTD25?qs=u4%252BEJ9urDAQGoahxVVMJDQ%3D%3D; Supplier 2 Name: Digi-Key; Supplier 2 SN: 445-16382-2-ND; Supplier 2 URL: https://www.digikey.com/en/products/detail/tdk-corporation/MLZ2012N3R3LTD25/4743198; Supplier 3 Name: thegioiic; Supplier 3 SN: OEM; Supplier 3 URL: N/A; ComponentLink1Description: Datasheet; ComponentLink1URL: https://product.tdk.com/system/files/dam/doc/product/inductor/inductor/smd/catalog/inductor_automotive_decoupling_mlz2012_en.pdf?ref_disty=mouser; ComponentLink3Description: Supplier 2 URL; ComponentLink3URL: https://www.digikey.com/en/products/detail/tdk-corporation/MLZ2012N3R3LTD25/4743198; ComponentLink4Description: Supplier 3 URL; Value: 3.3 uH, 750 mA
footprint 0805 (Chip Inductor, 2-Leads, Body 2.05x1.30mm, IPC Medium Density)
pins: 1, 2

## 02080533620190
designator L?, comment 33 uH, 190 mA
Inductor SMD, size 0805, 33 uH, 190 mA; Manufacture Name: TDK; Manufacture SN: MLZ2012M330WTD25; Inductance: 33 uH; Tolerance: 20%; Maximum DC Current: 190 mA; Maximum DC Resistance: 2.6 Ohms; Saturation Current: 55 mA; ComponentLink2Description: Supplier 1 URL; ComponentLink2URL: https://www.mouser.vn/ProductDetail/TDK/MLZ2012M330WTD25?qs=u4%252BEJ9urDAR2bpG%2Fq%2FDBLw%3D%3D; Mounting Technology: SMT; Operating Temperature: -55 to +125degC; Packaging: Tape and Reel; Size: 0805; Supplier 1 Name: Mouser; Supplier 1 SN: 810-MLZ2012M330WTD25; Supplier 1 URL: https://www.mouser.vn/ProductDetail/TDK/MLZ2012M330WTD25?qs=u4%252BEJ9urDAR2bpG%2Fq%2FDBLw%3D%3D; Supplier 2 Name: Digi-Key; Supplier 2 SN: 445-17078-2-ND; Supplier 2 URL: https://www.digikey.com/en/products/detail/tdk-corporation/MLZ2012M330WTD25/4743193; Supplier 3 Name: thegioiic; Supplier 3 SN: OEM; Supplier 3 URL: N/A; ComponentLink1Description: Datasheet; ComponentLink1URL: https://product.tdk.com/system/files/dam/doc/product/inductor/inductor/smd/catalog/inductor_automotive_decoupling_mlz2012_en.pdf?ref_disty=mouser; ComponentLink3Description: Supplier 2 URL; ComponentLink3URL: https://www.digikey.com/en/products/detail/tdk-corporation/MLZ2012M330WTD25/4743193; ComponentLink4Description: Supplier 3 URL; Value: 33 uH, 190 mA
footprint 0805 (Chip Inductor, 2-Leads, Body 2.05x1.30mm, IPC Medium Density)
pins: 1, 2

## 02080547420700
designator L?, comment 470 nH, 700 mA
Inductor SMD, size 0805, 470 nH, 700 mA; Manufacture Name: TDK; Manufacture SN: MLZ2012DR47DTD25; Inductance: 470 nH; Tolerance: 20%; Maximum DC Current: 700 mA; Maximum DC Resistance: 180 mOhms; Saturation Current: 550 mA; ComponentLink2Description: Supplier 1 URL; ComponentLink2URL: https://www.mouser.vn/ProductDetail/TDK/MLZ2012DR47DTD25?qs=u4%252BEJ9urDARvl4Yu%2Fnwb8Q%3D%3D; Mounting Technology: SMT; Operating Temperature: -55 to +125degC; Packaging: Tape and Reel; Size: 0805; Supplier 1 Name: Mouser; Supplier 1 SN: 810-MLZ2012DR47DTD25; Supplier 1 URL: https://www.mouser.vn/ProductDetail/TDK/MLZ2012DR47DTD25?qs=u4%252BEJ9urDARvl4Yu%2Fnwb8Q%3D%3D; Supplier 2 Name: Digi-Key; Supplier 2 SN: 445-173073-2-ND; Supplier 2 URL: https://www.digikey.com/en/products/detail/tdk-corporation/MLZ2012DR47DTD25/4743183; Supplier 3 Name: thegioiic; Supplier 3 SN: OEM; Supplier 3 URL: N/A; ComponentLink1Description: Datasheet; ComponentLink1URL: https://product.tdk.com/system/files/dam/doc/product/inductor/inductor/smd/catalog/inductor_automotive_decoupling_mlz2012_en.pdf?ref_disty=mouser; ComponentLink3Description: Supplier 2 URL; ComponentLink3URL: https://www.digikey.com/en/products/detail/tdk-corporation/MLZ2012DR47DTD25/4743183; ComponentLink4Description: Supplier 3 URL; Value: 470 nH, 700 mA
footprint 0805 (Chip Inductor, 2-Leads, Body 2.05x1.30mm, IPC Medium Density)
pins: 1, 2